# Altium integrated library Трансформатор.IntLib: 71 symbols
Pins are listed as number, name and electrical type; pins without a type are passive.

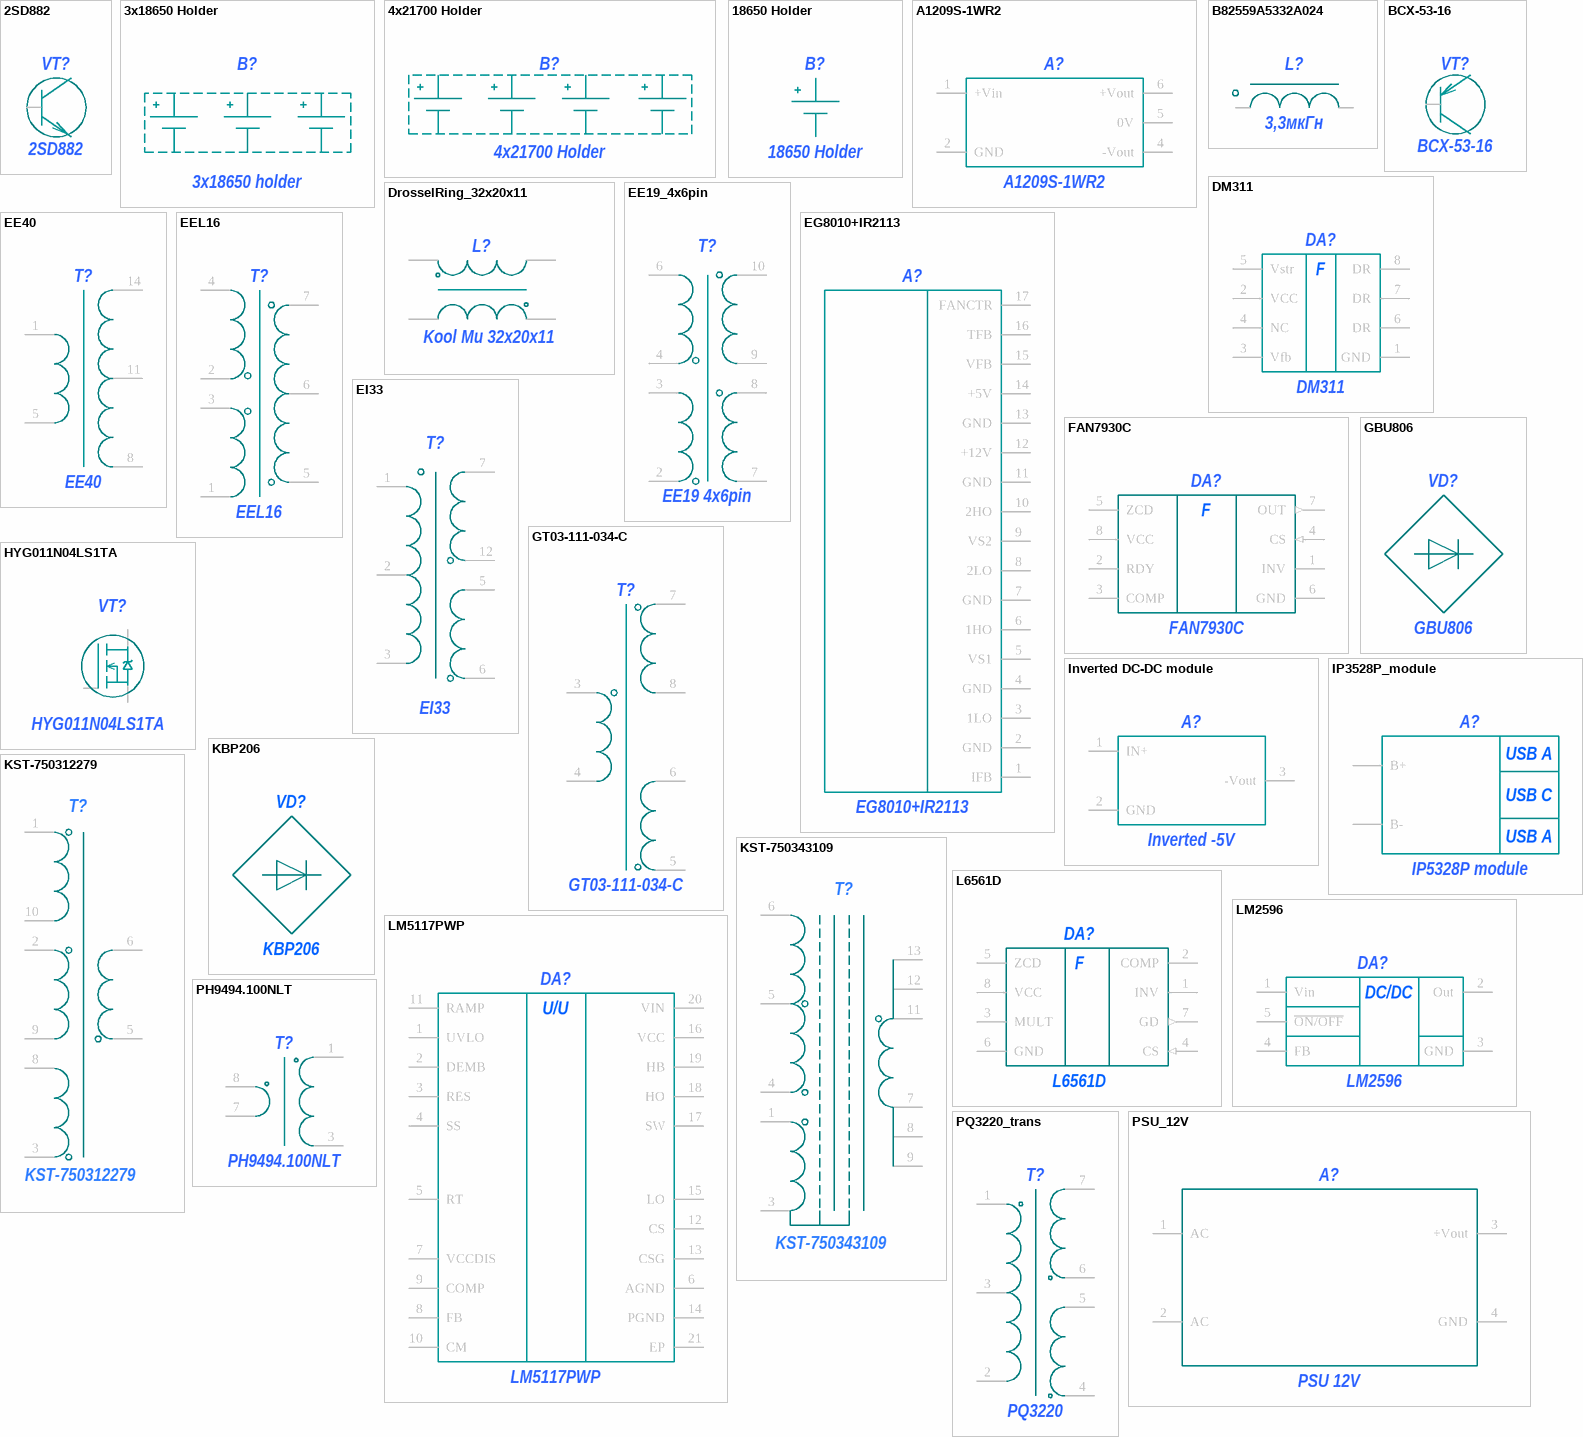
[diagram p0: symbols 2SD882 to PSU_12V]

## 2SD882
designator VT?
footprint SOT89-150P400X160-3N (SOT89, 3-Leads, Body 4,50x2,50mm, Pitch 1,50mm, Lead Span 4,0mm, IPC Medium Density)
pins: 1 B, 2 C, 3 E

## 3x18650 Holder
designator B?, comment 3x18650 holder
footprint 3x18650 holder
pins: 1, 2, 3, 4, 5, 6

## 4x21700 Holder
designator B?
footprint 4x21700_holder
pins: 1, 2, 3, 4, 5, 6, 7, 8

## 18650 Holder
designator B?
footprint 18650 Holder
pins: 1, 2

## A1209S-1WR2
designator A?
footprint A1209S-1WR2
pins: 1 +Vin, 2 GND, 4 -Vout, 5 0V, 6 +Vout

## B82559A5332A024
designator L?, comment 3,3мкГн
footprint B82559A5332A024
pins: 1 5, 2 6

## BCX-53-16
designator VT?
footprint SOT89-150P400X160-3N (SOT89, 3-Leads, Body 4,50x2,50mm, Pitch 1,50mm, Lead Span 4,0mm, IPC Medium Density)
pins: 1 B, 2 C, 3 E

## DM311
designator DA?  Function: F
footprint DIP8
pins: 1 GND, 2 VCC, 3 Vfb, 4 NC, 5 Vstr, 6 DR, 7 DR, 8 DR

## DrosselRing_32x20x11
designator L?, comment Kool Mu 32x20x11
footprint DrosselRing_HOR
footprint DrosselRing_VERT
footprint PFC_Choke
pins: 1 L1_1 (power), 2 L2_2 (power), 3 L2_1 (power), 4 L1_2 (power)

## EE19_4x6pin
designator T?, comment EE19 4x6pin
footprint EE19 4x6pin
pins: 2 RT, 3 RT, 4 RT, 6 RT, 7 RT, 8 RT, 9 8, 10 RT

## EE40
designator T?
I: *; II: *; III: *
footprint Trans
pins: 1 16, 5 17, 8 18, 11 19, 14 20

## EEL16
designator T?
footprint EEL16
pins: 1 RT, 2 RT, 3 RT, 4 RT, 5 RT, 6 RT, 7 RT, 8 RT hidden

## EG8010+IR2113
designator A?
footprint EG8010+IR2113
pins: 1 IFB, 2 GND, 3 1LO, 4 GND, 5 VS1, 6 1HO, 7 GND, 8 2LO, 9 VS2, 10 2HO, 11 GND, 12 +12V, 13 GND, 14 +5V, 15 VFB, 16 TFB, 17 FANCTR

## EI33
designator T?
footprint TRANS_EE32
pins: 1 48, 2 13, 3 49, 5 50, 6 51, 7 53, 12

## FAN7930C
designator DA?  Function: F
footprint SOIC127P600X175-8N (SOIC, 8-Leads, Body 4,90x3,90mm, Pitch 1,27mm, IPC Medium Density)
pins: 1 INV, 2 RDY, 3 COMP, 4 CS (in), 5 ZCD, 6 GND (power), 7 OUT (out), 8 VCC (power)

## GBU806
designator VD?
footprint GBU806
pins: 1 V+ (out), 2 V~ (in), 3 V~ (in), 4 V- (out)

## GT03-111-034-C
designator T?
footprint GT03-111-034-C
pins: 3, 4, 5, 6, 7, 8

## HYG011N04LS1TA
designator VT?
footprint HYG011N04LS1TA
pins: 1, 2, 3

## Inverted DC-DC module
designator A?, comment Inverted -5V
footprint Inverted -5V
pins: 1 IN+, 2 GND, 3 -Vout

## IP3528P_module
designator A?, comment IP5328P module
footprint IP3528P_module
pins: 1 B-, 2 B+
text: USB A; USB C

## KBP206
designator VD?
footprint KBP206
pins: 1 Light (out), 2 Light (in), 3 Light (in), 4 Light (out)

## KST-750312279
designator T?
footprint KST-750312279
pins: 1 C, 2 11, 3 14, 5 12, 6 11, 8 13, 9 12, 10 C

## KST-750343109
designator T?
footprint KST-750343109
pins: 1 16, 3 17, 4 15, 5 14, 6 13, 7 8, 8 14, 9 15, 11 7, 12, 13

## L6561D
designator DA?  Function: F
footprint SOIC127P600X175-8N (SOIC, 8-Leads, Body 4,90x3,90mm, Pitch 1,27mm, IPC Medium Density)
pins: 1 INV, 2 COMP, 3 MULT, 4 CS (in), 5 ZCD, 6 GND (power), 7 GD (out), 8 VCC (power)

## LM2596
designator DA?  Function: DC/DC
footprint LM2596_TO220
pins: 1 Vin, 2 Out, 3 GND, 4 FB, 5 ~{ON/OFF}

## LM5117PWP
designator DA?  Fucntion: U/U
footprint TSOP65P640X110_HS-21N (TSOP, 20-Leads, Body 6,50x4,40mm, Pitch 0,65mm, Thermal Pad 4,35x3,15mm, IPC Medium Density)
pins: 1 UVLO, 2 DEMB, 3 RES, 4 SS, 5 RT, 6 AGND, 7 VCCDIS, 8 FB, 9 COMP, 10 CM, 11 RAMP, 12 CS, 13 CSG, 14 PGND, 15 LO, 16 VCC, 17 SW, 18 HO, 19 HB, 20 VIN, 21 EP

## PH9494.100NLT
designator T?
footprint PH9494.100NLT
pins: 1, 3, 7, 8

## PQ3220_trans
designator T?, comment PQ3220
footprint PQ3220
pins: 1 13, 2 14, 3 15, 4 16, 5 17, 6 18, 7 19

## PSU_12V
designator A?, comment PSU 12V
footprint PSU_12V
pins: 1 AC, 2 AC, 3 +Vout, 4 GND

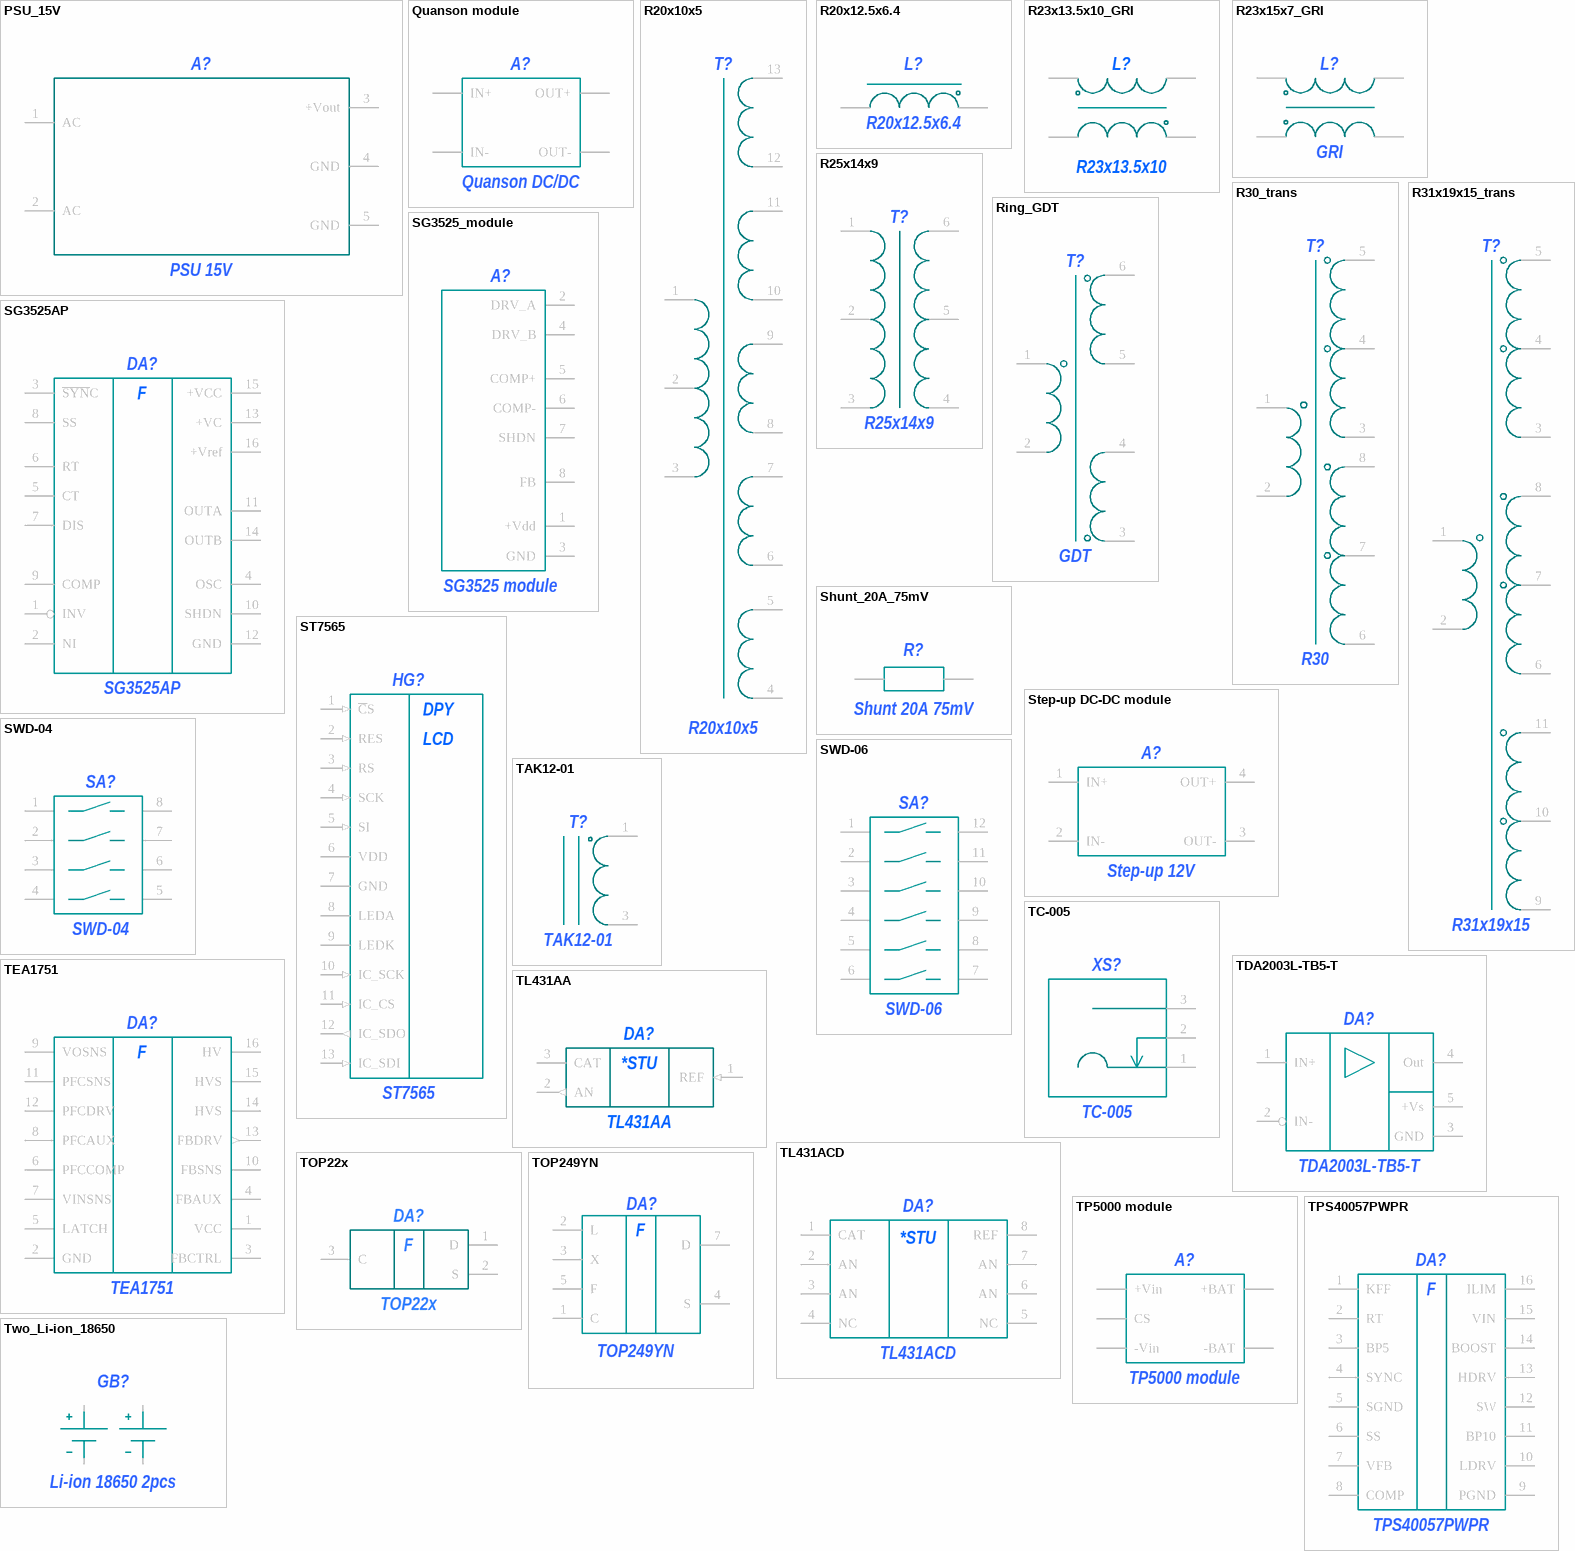
[diagram p1: symbols PSU_15V to Two_Li-ion_18650]

## PSU_15V
designator A?, comment PSU 15V
footprint PSU_15V
pins: 1 AC, 2 AC, 3 +Vout, 4 GND, 5 GND

## Quanson module
designator A?, comment Quanson DC/DC
footprint Quanson DC/DC
pins: 1 IN+, 2 IN-, 3 OUT-, 4 OUT+

## R20x10x5
designator T?
footprint R20x10x5 - Push Pull
pins: 1 ILIM, 2 ILIM, 3 ILIM, 4, 5, 6, 7, 8, 9, 10, 11, 12, 13

## R20x12.5x6.4
designator L?
footprint R20x12.5x6.4
footprint R25x14x10
footprint R15x8x5
pins: 1 GND (power), 2 GND (power)

## R23x13.5x10_GRI
designator L?, comment R23x13.5x10
footprint R23x13.5x10
pins: 1 GND (power), 2 GND (power), 3 GND (power), 4 GND (power)

## R23x15x7_GRI
designator L?, comment GRI
footprint R23x13.5x10
pins: 1 GND (power), 2 GND (power), 3 GND (power), 4 GND (power)

## R25x14x9
designator T?
footprint Ring_25x14x9
pins: 1 48, 2 13, 3 49, 4 51, 5 50, 6 53

## R30_trans
designator T?, comment R30
footprint R30
footprint R30
pins: 1 GND, 2 GND, 3 GND, 4 GND, 5 GND, 6, 7, 8

## R31x19x15_trans
designator T?, comment R31x19x15
footprint R31x19x15
pins: 1 GND, 2 GND, 3 GND, 4 GND, 5 GND, 6, 7, 8, 9, 10 11, 11

## Ring_GDT
designator T?, comment GDT
footprint R20x10x5
footprint R20x10x5_VERT
footprint R16x10x6_VERT
pins: 1 15, 2 16, 3 17, 4 18, 5 19, 6 20

## SG3525_module
designator A?, comment SG3525 module
footprint SG3525_module
pins: 1 +Vdd, 2 DRV_A, 3 GND, 4 DRV_B, 5 COMP+, 6 COMP-, 7 SHDN, 8 FB

## SG3525AP
designator DA?  Function: F
footprint SOP127P600-8N (TEA1751)
pins: 1 INV, 2 NI, 3 ~{SYN}C, 4 OSC, 5 CT, 6 RT, 7 DIS, 8 SS, 9 COMP, 10 SHDN, 11 OUTA, 12 GND, 13 +VC, 14 OUTB, 15 +VCC, 16 +Vref

## Shunt_20A_75mV
designator R?, comment Shunt 20A 75mV
footprint Shunt_20A_75mV
pins: 1, 2

## ST7565
designator HG?
footprint ST7565
pins: 1 ~{C}S (in), 2 RES (in), 3 RS (in), 4 SCK (in), 5 SI (in), 6 VDD (power), 7 GND (power), 8 LEDA, 9 LEDK, 10 IC_SCK (in), 11 IC_CS (in), 12 IC_SDO (out), 13 IC_SDI (in)
text: DPY; LCD

## Step-up DC-DC module
designator A?, comment Step-up 12V
footprint Step-up 12V
pins: 1 IN+, 2 IN-, 3 OUT-, 4 OUT+

## SWD-04
designator SA?
footprint SWD-04
pins: 1, 2, 3, 4, 5, 6, 7, 8

## SWD-06
designator SA?
footprint SWD-06
pins: 1, 2, 3, 4, 5, 6, 7, 8, 9, 10, 11, 12

## TAK12-01
designator T?
footprint TAK12-01
pins: 1, 3

## TC-005
designator XS?
footprint TC-005
pins: 1, 2, 3

## TDA2003L-TB5-T
designator DA?
footprint TDA2003
pins: 1 IN+, 2 IN-, 3 GND, 4 Out, 5 +Vs

## TEA1751
designator DA?  Function: F
footprint SOP127P600-8N (TEA1751)
pins: 1 VCC (power), 2 GND (power), 3 FBCTRL, 4 FBAUX, 5 LATCH, 6 PFCCOMP, 7 VINSNS, 8 PFCAUX, 9 VOSNS, 10 FBSNS, 11 PFCSNS, 12 PFCDRV, 13 FBDRV (out), 14 HVS, 15 HVS, 16 HV

## TL431AA
designator DA?
footprint TL431AA
pins: 1 REF (in), 2 AN (out), 3 CAT
text: *STU

## TL431ACD
designator DA?  Parameter 1: *STU
footprint SOIC127P600X175-8M (SOIC, 8-Leads, Body 4,90x3,90mm, Pitch 1,27mm, IPC Low Density)
pins: 1 CAT, 2 AN, 3 AN, 4 NC, 5 NC, 6 AN, 7 AN, 8 REF

## TOP22x
designator DA?  Function: F
footprint TOP22x
pins: 1 D, 2 S, 3 C

## TOP249YN
designator DA?  Parameter 1: F
footprint TOP24x_TO220_7C
pins: 1 C, 2 L, 3 X, 4 S, 5 F, 7 D

## TP5000 module
designator A?
footprint TP5000 module
pins: 1 +Vin, 2 -Vin, 3 -BAT, 4 +BAT, 5 CS, 6 +Vin hidden

## TPS40057PWPR
designator DA?  Function: F
footprint HTSSOP16
pins: 1 KFF, 2 RT, 3 BP5, 4 SYNC, 5 SGND, 6 SS, 7 VFB, 8 COMP, 9 PGND, 10 LDRV, 11 BP10, 12 SW, 13 HDRV, 14 BOOST, 15 VIN, 16 ILIM

## Two_Li-ion_18650
designator GB?, comment Li-ion 18650 2pcs
footprint Li-ion 18650 2pcs holder
pins: 1, 2, 3, 4

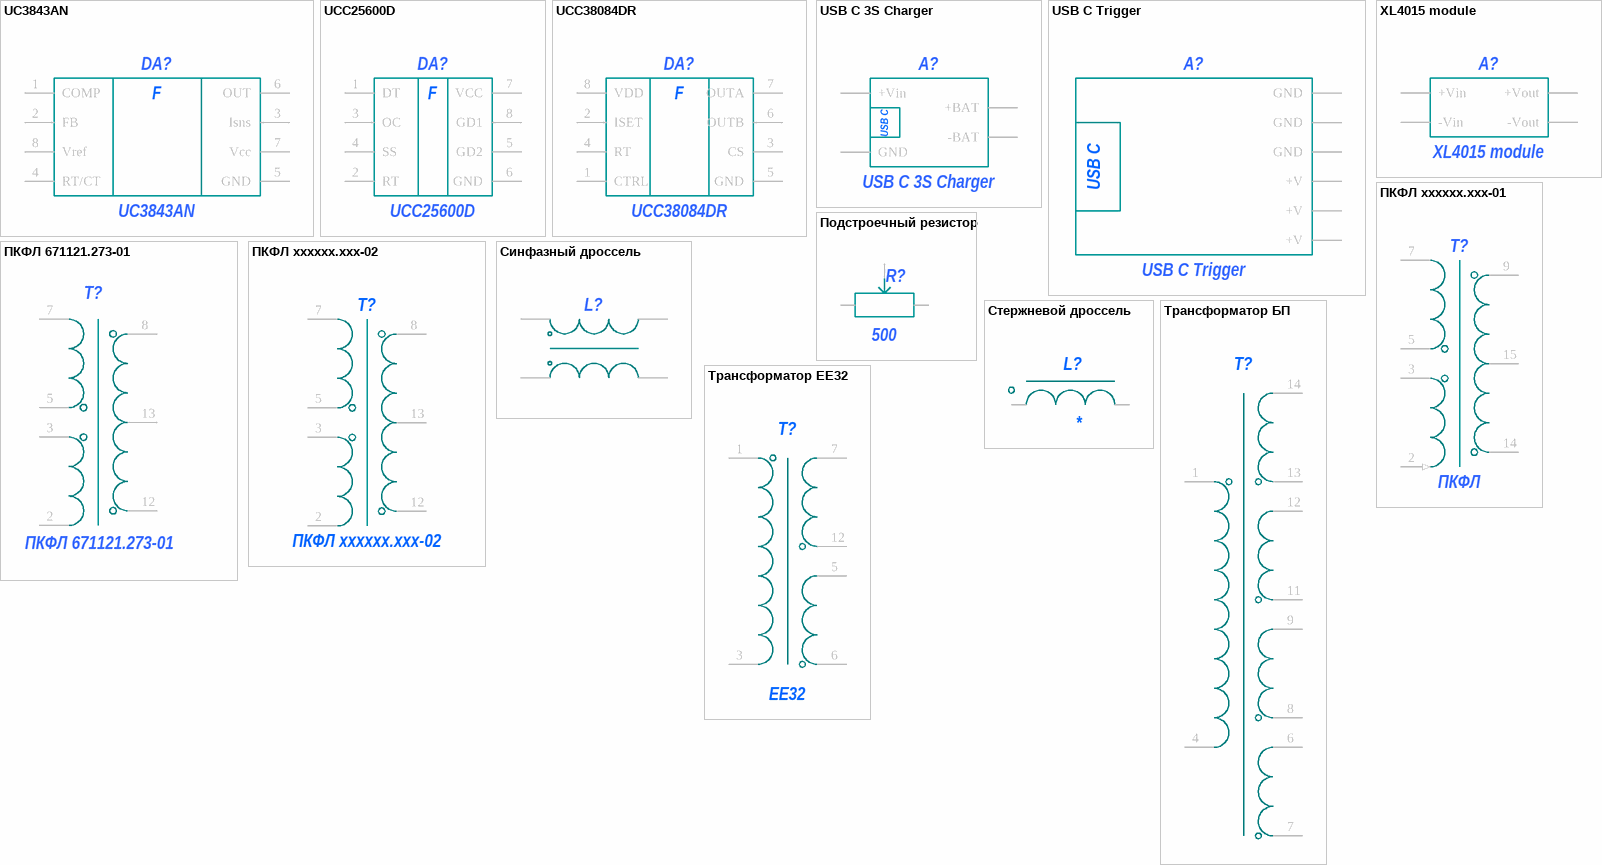
[diagram p2: symbols UC3843AN to Трансформатор ЕЕ32]

## UC3843AN
designator DA?  Function: F
footprint DIP8
pins: 1 COMP, 2 FB, 3 Isns, 4 RT/CT, 5 GND, 6 OUT, 7 Vcc, 8 Vref

## UCC25600D
designator DA?  Function: F
footprint SOIC127P600X175-8N (SOIC, 8-Leads, Body 4,90x3,90mm, Pitch 1,27mm, IPC Medium Density)
pins: 1 DT, 2 RT, 3 OC, 4 SS, 5 GD2, 6 GND, 7 VCC, 8 GD1

## UCC38084DR
designator DA?  Function: F
footprint SOIC127P600X175-8M (SOIC, 8-Leads, Body 4,90x3,90mm, Pitch 1,27mm, IPC Low Density)
pins: 1 CTRL, 2 ISET, 3 CS, 4 RT, 5 GND, 6 OUTB, 7 OUTA, 8 VDD

## USB C 3S Charger
designator A?
footprint USB C 3S Charger
pins: 1 +Vin, 2 GND, 3 -BAT, 4 +BAT
text: USB C

## USB C Trigger
designator A?
footprint USB C Trigger
pins: 1 GND, 2 GND, 3 GND, 4 +V, 5 +V, 6 +V
text: USB C

## XL4015 module
designator A?
footprint XL4015 module
pins: 1 +Vin, 2 -Vin, 3 +Vout, 4 -Vout

## ПКФЛ 671121.273-01
designator T?
footprint ПКФЛ 671121.273-01
pins: 2, 3, 5, 7, 8, 12, 13

## ПКФЛ хххххх.ххх-01
designator T?, comment ПКФЛ
footprint ПКФЛ хххххх.ххх-01
pins: 2 (in), 3, 5, 7, 9, 14, 15

## ПКФЛ хххххх.ххх-02
designator T?
footprint ПКФЛ хххххх.ххх-02
pins: 2, 3, 5, 7, 8, 12, 13

## Подстроечный резистор
designator R?, comment 500
footprint VarResistor
pins: 1 GND, 2 GND, 3 GND

## Синфазный дроссель
designator L?  (value not drawn)
footprint Drossel
footprint CommonDrosselRing
footprint COMMON_DROSSEL_13mm
footprint CMN_DROSSEL_14x15mm
pins: 1 L1_1 (power), 2 L1_2 (power), 3 L2_1 (power), 4 L2_2 (power)

## Стержневой дроссель
designator L?
footprint Rod_Drossel
footprint KSB-RB1415
pins: 1 5, 2 6

## Трансформатор БП
designator T?  (value not drawn)
footprint Trans
pins: 1 48, 4 49, 6 50, 7 51, 8 52, 9 53, 11 54, 12 55, 13 56, 14

## Трансформатор ЕЕ32
designator T?, comment EE32
footprint TRANS_EE32
pins: 1 48, 3 49, 5 50, 6 51, 7 53, 12